# Altium footprint library RF-Amplifiers.PcbLib: 1 footprints
Each footprint in its own frame and in the unit in brackets; x right, y up, seen from the top. Pads: shape width x height; smd on the part's side, far side on the other; paste and mask are expansions set on the pad; w line width, h text height; cw(c..) or ccw(c..) is an arc to the next point about the centre after c.
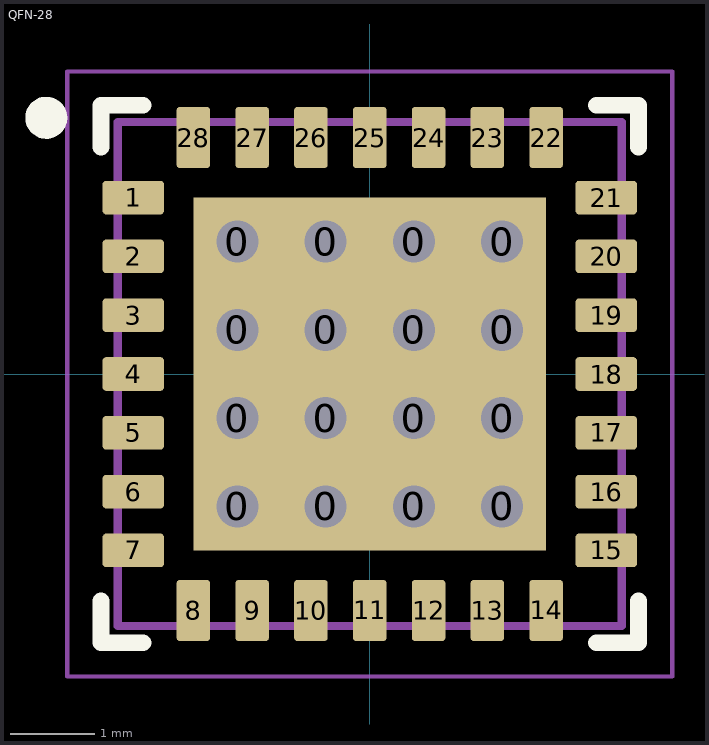
[diagram p0: the footprint, top view; thin cyan lines are the x and y axes]

## QFN-28 [mm] "QFN, 28-Leads, Body 6.00x6.00mm, Pitch 0.70mm, Thermal Pad 4.20x4.20mm, IPC Medium Density"
height 1.1
pads (44):
  rect 1.05x1.05 hole 0.5: 0(-1.575,-1.575) 0(-1.575,-0.525) 0(-1.575,0.525) 0(-1.575,1.575) 0(-0.525,-1.575) 0(-0.525,-0.525) 0(-0.525,0.525) 0(-0.525,1.575) 0(0.525,-1.575) 0(0.525,-0.525) 0(0.525,0.525) 0(0.525,1.575) 0(1.575,-1.575) 0(1.575,-0.525) 0(1.575,0.525) 0(1.575,1.575)
  rrect20% 0.73x0.4 smd: 1(-2.815,2.1) 2(-2.815,1.4) 3(-2.815,0.7) 4(-2.815,0) 5(-2.815,-0.7) 6(-2.815,-1.4) 7(-2.815,-2.1) 15(2.815,-2.1) 16(2.815,-1.4) 17(2.815,-0.7) 18(2.815,0) 19(2.815,0.7) 20(2.815,1.4) 21(2.815,2.1)
  rrect20% 0.4x0.73 smd: 8(-2.1,-2.815) 9(-1.4,-2.815) 10(-0.7,-2.815) 11(0,-2.815) 12(0.7,-2.815) 13(1.4,-2.815) 14(2.1,-2.815) 22(2.1,2.815) 23(1.4,2.815) 24(0.7,2.815) 25(0,2.815) 26(-0.7,2.815) 27(-1.4,2.815) 28(-2.1,2.815)
Top Overlay:
  circle w0.25: c-3.85,3.05 r0.125
  lines w0.2: -3.2,-2.7 -3.2,-3.2 -2.7,-3.2 ; -3.2,2.7 -3.2,3.2 -2.7,3.2 ; 2.7,-3.2 3.2,-3.2 3.2,-2.7 ; 2.7,3.2 3.2,3.2 3.2,2.7
Mechanical 1:
  lines w0.1: -3,-3 3,-3 3,3 -3,3 -3,-3
Mechanical 15:
  lines w0.05: -3.6,-3.6 -3.6,3.6 3.6,3.6 3.6,-3.6 -3.6,-3.6
  lines w0.1: -0.5,0 0.5,0 ; 0,-0.5 0,0.5
3D body "QFN-28-1EP_6x6mm_P0.65mm_EP4.25x4.25mm.step": height 0.92, standoff 0, extent -3,-3 3,3